# EAGLE library part FTOP-12 (library con-ftop-orientation-hole)
AMP connector
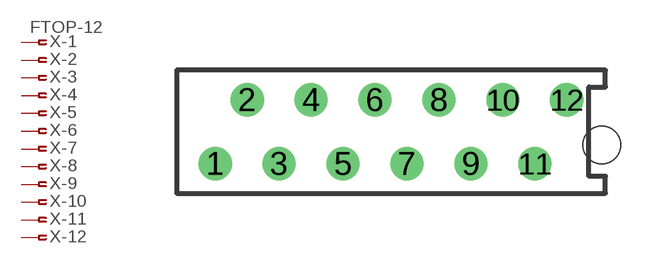
[diagram p3: symbol with the pads of FTOP-12; footprint FTOP-12]

Designator prefix X; gates -1=PIN-FV -2=PIN-F -3=PIN-F -4=PIN-F -5=PIN-F -6=PIN-F -7=PIN-F -8=PIN-F -9=PIN-F -10=PIN-F -11=PIN-F -12=PIN-F

## FTOP-12  [FTOP-12]
1  -1:1  pas
2  -2:1  pas
3  -3:1  pas
4  -4:1  pas
5  -5:1  pas
6  -6:1  pas
7  -7:1  pas
8  -8:1  pas
9  -9:1  pas
10  -10:1  pas
11  -11:1  pas
12  -12:1  pas

## Footprint FTOP-12 (pad centres in mm)
AMP connector
drill 0.813: 1 -6.985,-1.27; 2 -5.715,1.27; 3 -4.445,-1.27; 4 -3.175,1.27; 5 -1.905,-1.27; 6 -0.635,1.27; 7 0.635,-1.27; 8 1.905,1.27; 9 3.175,-1.27; 10 4.445,1.27; 11 5.715,-1.27; 12 6.985,1.27
hole 1.5 at 8.385,-0.53